# EAGLE library part TPS62151 (library texas)
BUCK REGULATOR
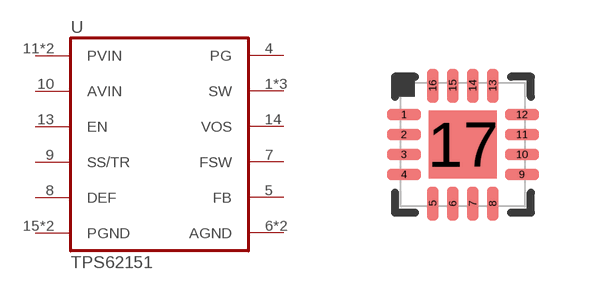
[diagram p108: symbol with the pads of PVQFN-16; footprint PVQFN-16]

Designator prefix U

## TPS62151  [PVQFN-16]
1  SW  out
2  SW  out
3  SW  out
4  PG  out
5  FB  in
6  AGND  in
7  FSW  in
8  DEF  in
9  SS/TR  in
10  AVIN  in
11  PVIN  in
12  PVIN  in
13  EN  in
14  VOS  in
15  PGND  in
16  PGND  in
17  AGND  in

## Footprint PVQFN-16 (pad centres in mm)
PVQFN 16 pin 3 mm x 3 mm RGT (S-PVQFN-N16)
smd 0.85 x 0.28: 1 -1.475,0.75; 2 -1.475,0.25; 3 -1.475,-0.25; 4 -1.475,-0.75; 9 1.475,-0.75; 10 1.475,-0.25; 11 1.475,0.25; 12 1.475,0.75
smd 0.28 x 0.85: 5 -0.75,-1.475; 6 -0.25,-1.475; 7 0.25,-1.475; 8 0.75,-1.475; 13 0.75,1.475; 14 0.25,1.475; 15 -0.25,1.475; 16 -0.75,1.475
smd 1.7 x 1.7: 17 0,0